# EAGLE library part G2RL-1A-E-HA (library PP_Electromechanical)
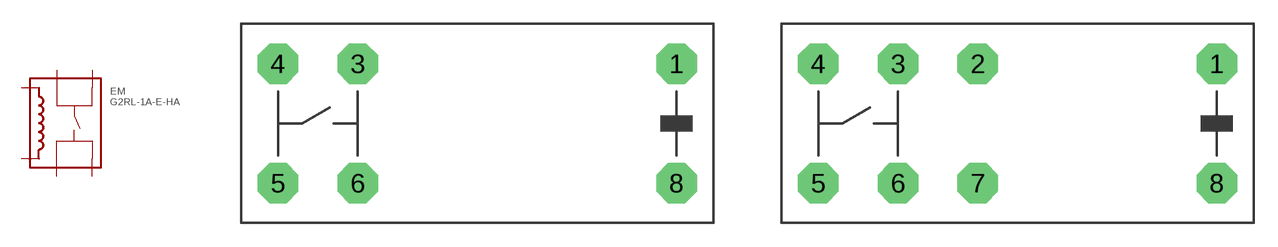
[diagram p9: symbol with the pads of G2RL-1A-E-HA; footprints G2RL-1A-E-HA, G2RL-1-E-HA]

Designator prefix EM

## G2RL-1A-E-HA  [G2RL-1A-E-HA]
1  1
3  3
4  4
5  5
6  6
8  8

## G2RL-1A-E-HA_SPDT  [G2RL-1-E-HA]
Pads as for G2RL-1A-E-HA

## Footprint G2RL-1A-E-HA (pad centres in mm)
drill 1.3 pad 2.54 octagon: 1 12.5,3.75; 3 -7.5,3.75; 4 -12.5,3.75; 5 -12.5,-3.75; 6 -7.5,-3.75; 8 12.5,-3.75

## Footprint G2RL-1-E-HA (pad centres in mm)
drill 1.3 pad 2.54 octagon: 1 12.5,3.75; 2 -2.5,3.75; 3 -7.5,3.75; 4 -12.5,3.75; 5 -12.5,-3.75; 6 -7.5,-3.75; 7 -2.5,-3.75; 8 12.5,-3.75